# Altium footprint library HSBNE-MOTOR.PcbLib: 40 footprints (part 3 of 3)
Each footprint in its own frame and in the unit in brackets; x right, y up, seen from the top. Pads: shape width x height; smd on the part's side, far side on the other; paste and mask are expansions set on the pad; w line width, h text height; cw(c..) or ccw(c..) is an arc to the next point about the centre after c.
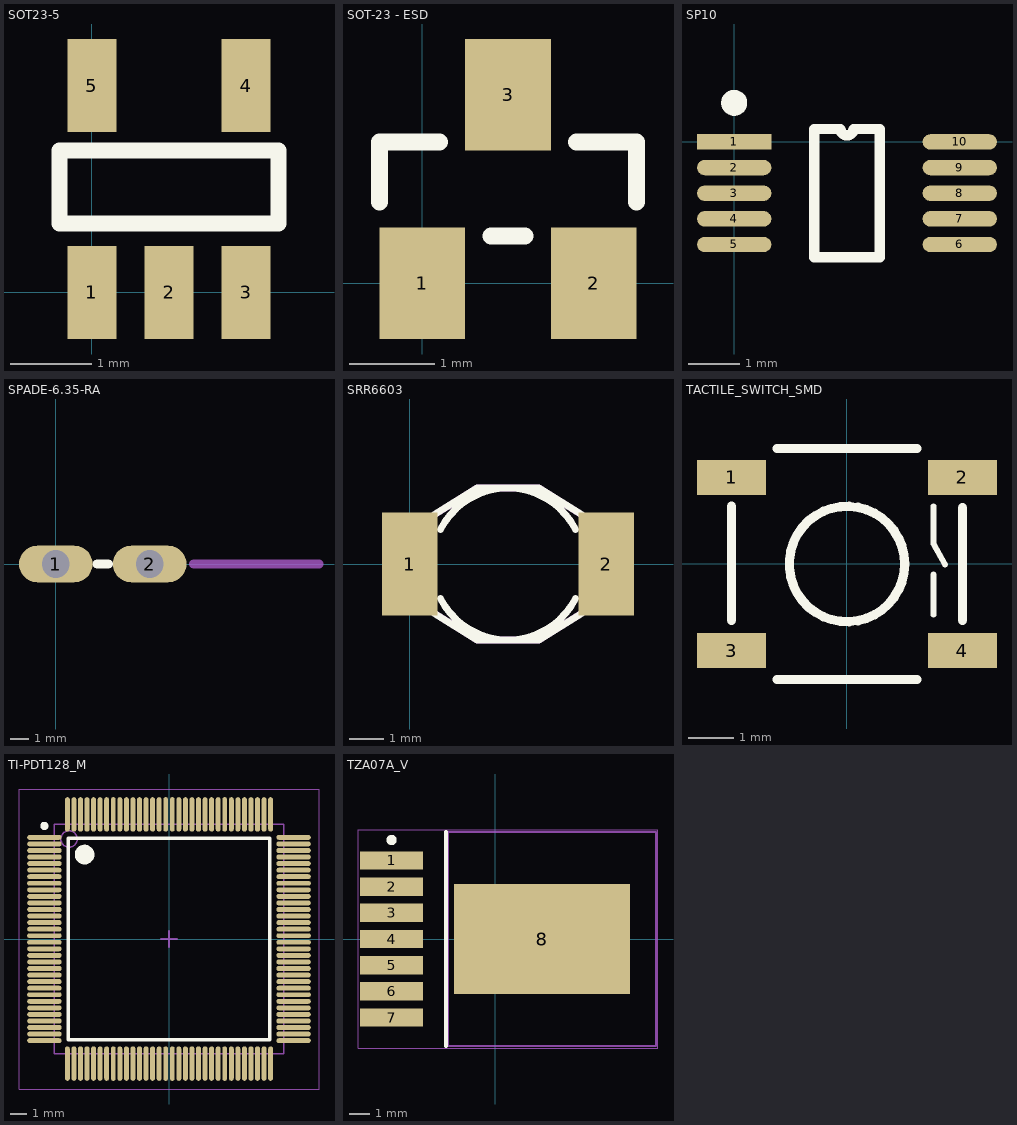
[diagram p2: the footprints below, top view; thin cyan lines are the x and y axes]

## SOT23-5 [mm]
pads (5):
  rect 0.6x1.15 smd: 1(0,0) 2(0.95,0) 3(1.9,0) 4(1.9,2.55) 5(0,2.55)
Top Overlay:
  lines w0.2: -0.4,0.85 -0.4,1.75 2.3,1.75 2.3,0.85 -0.4,0.85

## SOT-23 - ESD [mm]
pads (3):
  rect 1x1.3 smd: 1(0,0) 2(2,0) 3(1,2.2)
Top Overlay:
  lines w0.2: -0.5,0.95 -0.5,1.65 0.2,1.65 ; 0.8,0.55 1.2,0.55 ; 1.8,1.65 2.5,1.65 2.5,0.95
3D body: height 1, standoff 0, extent -0.635,0.508 2.54,1.778

## SP10 [mm]
pads (10):
  rect 1.45x0.3 smd: 1(0,0)
  oval 1.45x0.3 smd: 2(0,-0.5) 3(0,-1) 4(0,-1.5) 5(0,-2) 6(4.4,-2) 7(4.4,-1.5) 8(4.4,-1) 9(4.4,-0.5) 10(4.4,0)
Top Overlay:
  circle w0.254: c0,0.762 r0.127
  lines w0.2: 1.56,-2.25 1.56,0.25 2.075,0.25 ccw(c2.2,0.25) 2.325,0.25 2.84,0.25 2.84,-2.25 1.56,-2.25
3D body "User Library-IPC SOSOP50P490X109-10N MO-187BA MUB10A.STEP": height 1.24, standoff 0, extent -0.319,-2.566 4.637,0.534

## SPADE-6.35-RA [mm]
height 1
pads (2):
  oval 4x2 hole 1.5: 1(0,0) 2(5.1,0)
Top Overlay:
  lines w0.5: 2.25,0 2.85,0
Mechanical 3:
  lines w0.5: 7.5,0 14.3,0
3D body "JST_TAB3867B.68(MSTIN).STEP": height 9, standoff -3, extent -1.369,-0.419 14.831,0.381

## SRR6603 [mm]
pads (2):
  rect 1.6x3 smd: 1(0,0) 2(5.7,0)
Top Overlay:
  lines w0.2: 0.722,-1.432 1.95,-2.2 3.75,-2.2 4.978,-1.432 ; 0.722,1.432 1.95,2.2 3.75,2.2 4.978,1.432 ; 0.893,-1.005 ccw(c2.85,0) 4.807,-1.005 ; 0.893,1.005 cw(c2.85,0) 4.807,1.005
Mechanical 3:
  lines w0.2: -0.45,-0.7 1.95,-2.2 3.75,-2.2 6.15,-0.7 6.15,0.7 3.75,2.2 1.95,2.2 -0.45,0.7 -0.45,-0.7
3D body: height 3, standoff 0, extent 0.651,-2.199 5.049,2.199
3D body: height 1, standoff 0, extent -0.451,-2.201 6.151,2.201

## TACTILE_SWITCH_SMD [mil]
pads (4):
  rect 60x30 smd: 1(-100,75) 2(100,75) 3(-100,-75) 4(100,-75)
Top Overlay:
  circle w8: c0,0 r50
  lines w5: 75,-43.9 75,-9.05 ; 75,50 75,17.52 85.04,-0.39
  lines w8: -100,-48.82 -100,50 ; -60.63,-100 60.63,-100 ; -60.63,100 60.63,100 ; 100,-48.82 100,48.82
3D body: height 70.87, standoff 0, extent -103.35,-108.27 103.35,103.35
3D body: height 122.05, standoff 0, extent -58.58,-58.93 59.06,58.94

## TI-PDT128_M [mm] "Thin QFP, 128-Leads, Body 14x14mm, Pitch 0.4mm, IPC Low Density"
height 1.2
pads (128):
  oval 2.1x0.3 smd: 1(-7.6,6.2) 2(-7.6,5.8) 3(-7.6,5.4) 4(-7.6,5) 5(-7.6,4.6) 6(-7.6,4.2) 7(-7.6,3.8) 8(-7.6,3.4) 9(-7.6,3) 10(-7.6,2.6) 11(-7.6,2.2) 12(-7.6,1.8) 13(-7.6,1.4) 14(-7.6,1) 15(-7.6,0.6) 16(-7.6,0.2) 17(-7.6,-0.2) 18(-7.6,-0.6) 19(-7.6,-1) 20(-7.6,-1.4) 21(-7.6,-1.8) 22(-7.6,-2.2) 23(-7.6,-2.6) 24(-7.6,-3) 25(-7.6,-3.4) 26(-7.6,-3.8) 27(-7.6,-4.2) 28(-7.6,-4.6) 29(-7.6,-5) 30(-7.6,-5.4) 31(-7.6,-5.8) 32(-7.6,-6.2) 65(7.6,-6.2) 66(7.6,-5.8) 67(7.6,-5.4) 68(7.6,-5) 69(7.6,-4.6) 70(7.6,-4.2) 71(7.6,-3.8) 72(7.6,-3.4) 73(7.6,-3) 74(7.6,-2.6) 75(7.6,-2.2) 76(7.6,-1.8) 77(7.6,-1.4) 78(7.6,-1) 79(7.6,-0.6) 80(7.6,-0.2) 81(7.6,0.2) 82(7.6,0.6) 83(7.6,1) 84(7.6,1.4) 85(7.6,1.8) 86(7.6,2.2) 87(7.6,2.6) 88(7.6,3) 89(7.6,3.4) 90(7.6,3.8) 91(7.6,4.2) 92(7.6,4.6) 93(7.6,5) 94(7.6,5.4) 95(7.6,5.8) 96(7.6,6.2)
  oval 0.3x2.1 smd: 33(-6.2,-7.6) 34(-5.8,-7.6) 35(-5.4,-7.6) 36(-5,-7.6) 37(-4.6,-7.6) 38(-4.2,-7.6) 39(-3.8,-7.6) 40(-3.4,-7.6) 41(-3,-7.6) 42(-2.6,-7.6) 43(-2.2,-7.6) 44(-1.8,-7.6) 45(-1.4,-7.6) 46(-1,-7.6) 47(-0.6,-7.6) 48(-0.2,-7.6) 49(0.2,-7.6) 50(0.6,-7.6) 51(1,-7.6) 52(1.4,-7.6) 53(1.8,-7.6) 54(2.2,-7.6) 55(2.6,-7.6) 56(3,-7.6) 57(3.4,-7.6) 58(3.8,-7.6) 59(4.2,-7.6) 60(4.6,-7.6) 61(5,-7.6) 62(5.4,-7.6) 63(5.8,-7.6) 64(6.2,-7.6) 97(6.2,7.6) 98(5.8,7.6) 99(5.4,7.6) 100(5,7.6) 101(4.6,7.6) 102(4.2,7.6) 103(3.8,7.6) 104(3.4,7.6) 105(3,7.6) 106(2.6,7.6) 107(2.2,7.6) 108(1.8,7.6) 109(1.4,7.6) 110(1,7.6) 111(0.6,7.6) 112(0.2,7.6) 113(-0.2,7.6) 114(-0.6,7.6) 115(-1,7.6) 116(-1.4,7.6) 117(-1.8,7.6) 118(-2.2,7.6) 119(-2.6,7.6) 120(-3,7.6) 121(-3.4,7.6) 122(-3.8,7.6) 123(-4.2,7.6) 124(-4.6,7.6) 125(-5,7.6) 126(-5.4,7.6) 127(-5.8,7.6) 128(-6.2,7.6)
Top Overlay:
  circle w0.25: c-7.6,6.9 r0.125
  circle w0.6: c-5.15,5.15 r0.3
  lines w0.2: -6.15,-6.15 -6.15,6.15 6.15,6.15 6.15,-6.15 -6.15,-6.15
Mechanical 13:
  circle w0.1: c-6.1,6.1 r0.5
  lines w0.1: -7,-7 -7,7 7,7 7,-7 -7,-7
Mechanical 15:
  lines w0.05: -9.15,-9.15 -9.15,9.15 9.15,9.15 9.15,-9.15 -9.15,-9.15
  lines w0.1: -0.5,0 0.5,0 ; 0,-0.5 0,0.5
3D body: height 1.2, standoff 0, extent -7,-7 7,7

## TZA07A_V [mm] "D2-PAK, 8-Leads, Body 9.9x10.2mm, Pitch 1.27mm, Lead Span 13.8mm, NSC Recommended"
height 4.67
pads (8):
  rect 3.06x0.89 smd: 1(-5.03,3.81) 2(-5.03,2.54) 3(-5.03,1.27) 4(-5.03,0) 5(-5.03,-1.27) 6(-5.03,-2.54) 7(-5.03,-3.81)
  rect 8.54x5.35 smd: 8(2.28,0)
Top Overlay:
  circle w0.25: c-5.03,4.805 r0.125
  lines w0.2: -2.39,-5.2 -2.39,5.2
Mechanical 13:
  lines w0.1: -2.3,-5.2 7.801,-5.2 7.801,5.2 -2.3,5.2 -2.3,-5.2
Mechanical 15:
  lines w0.05: -6.66,-5.3 7.9,-5.3 7.9,5.3 -6.66,5.3 -6.66,-5.3
  lines w0.1: -0.5,0 0.5,0 ; 0,-0.5 0,0.5
3D body "User Library-TO-PMOD-7-1.step": height 4.57, standoff 0, extent -6.056,-5.08 7.719,5.08